# Altium integrated library BC847BS.IntLib: 1 symbol
Pins are listed as number, name and electrical type; pins without a type are passive.

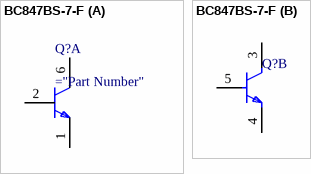
[diagram p0: symbol BC847BS-7-F]

## BC847BS-7-F
designator Q?  (value not drawn)
Supplier 1: Digi-Key; Supplier Part Number 1: BC847BS-7FDITR-ND; Supplier 2: LCSC; Supplier Part Number 2: C156292
footprint Diodes_SOT363_0
part A pins: 1 E2, 2 B2, 6 C2
part B pins: 3 C1, 4 E1, 5 B1